# EAGLE library part ATMEGA2560-16AU (library ATMEGA2560)
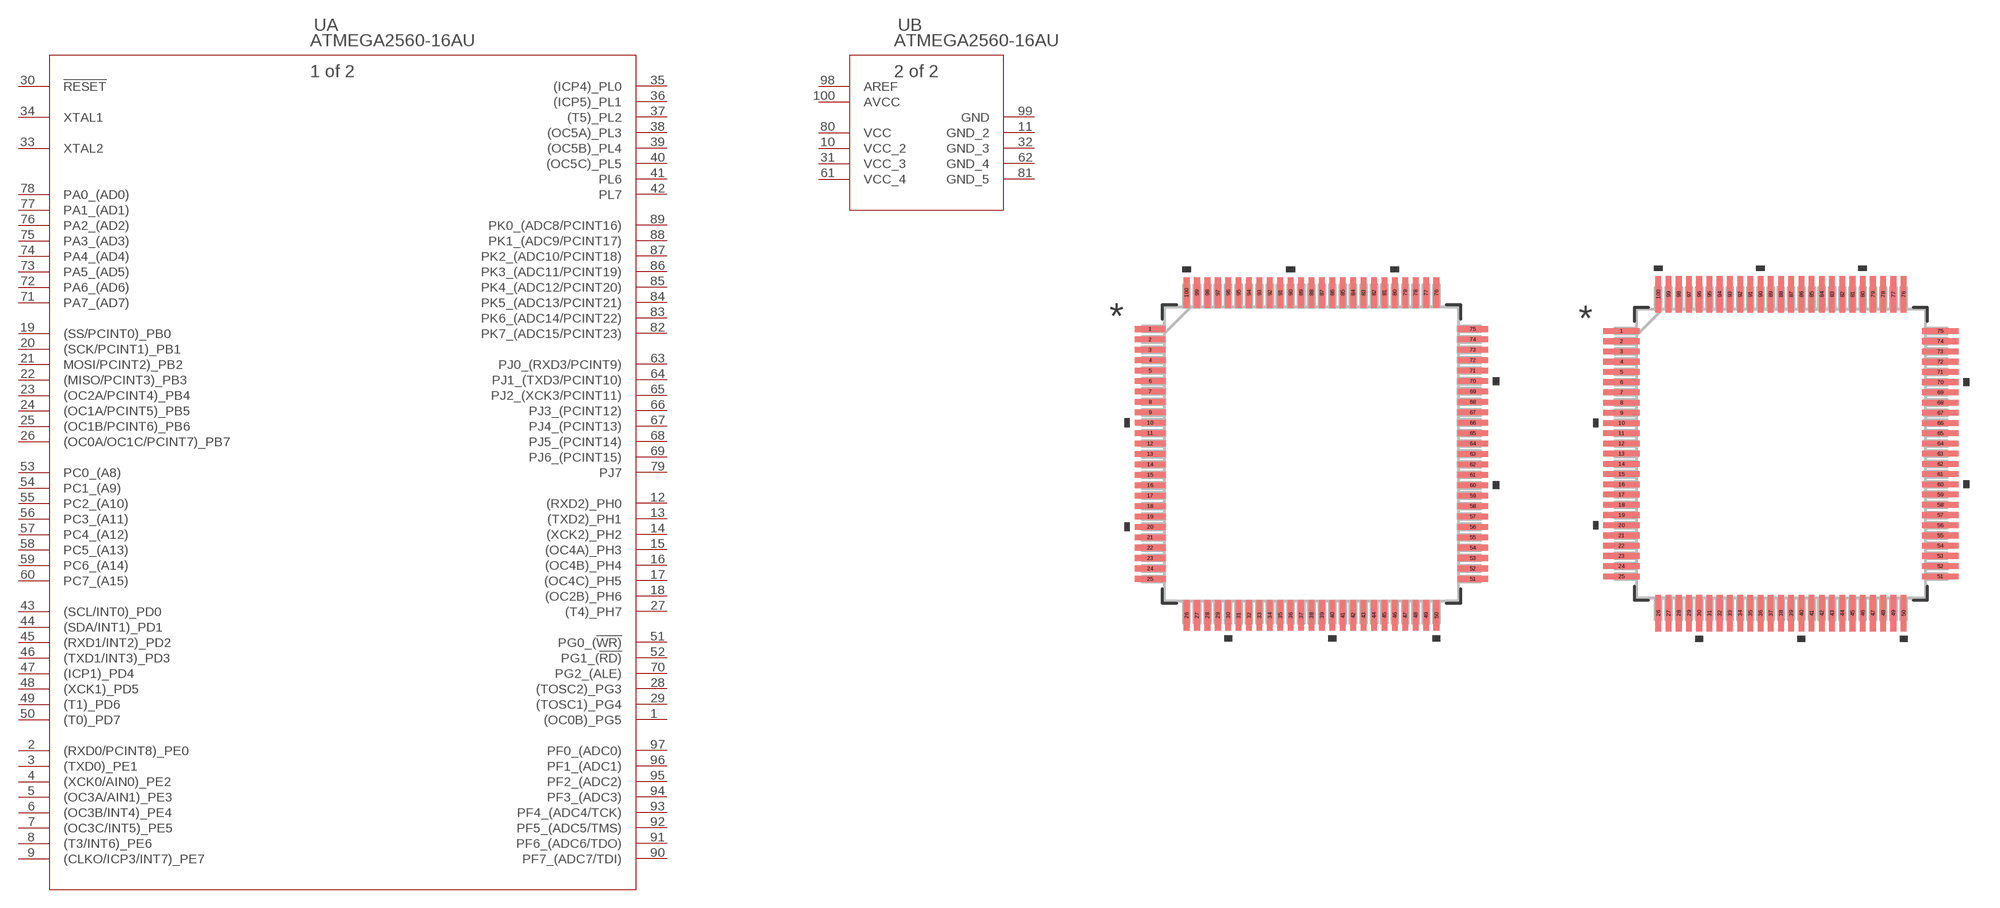
[diagram p0: symbol with the pads of 100A; footprints 100A, 100A-M]

Designator prefix U; gates A=ATMEGA2560-16AU B=ATMEGA2560-16AU_POWER

## ATMEGA2560-16AU (MANUFACTURER_PART_NUMBER: ATMEGA256016AU; VENDOR: Atmel)  [100A]
1  A:(OC0B)_PG5
2  A:(RXD0/PCINT8)_PE0
3  A:(TXD0)_PE1
4  A:(XCK0/AIN0)_PE2
5  A:(OC3A/AIN1)_PE3
6  A:(OC3B/INT4)_PE4
7  A:(OC3C/INT5)_PE5
8  A:(T3/INT6)_PE6
9  A:(CLKO/ICP3/INT7)_PE7
10  B:VCC_2  pwr
11  B:GND_2  pwr
12  A:(RXD2)_PH0
13  A:(TXD2)_PH1
14  A:(XCK2)_PH2
15  A:(OC4A)_PH3
16  A:(OC4B)_PH4
17  A:(OC4C)_PH5
18  A:(OC2B)_PH6
19  A:(SS/PCINT0)_PB0
20  A:(SCK/PCINT1)_PB1
21  A:MOSI/PCINT2)_PB2
22  A:(MISO/PCINT3)_PB3
23  A:(OC2A/PCINT4)_PB4
24  A:(OC1A/PCINT5)_PB5
25  A:(OC1B/PCINT6)_PB6
26  A:(OC0A/OC1C/PCINT7)_PB7
27  A:(T4)_PH7
28  A:(TOSC2)_PG3
29  A:(TOSC1)_PG4
30  A:!RESET  in
31  B:VCC_3  pwr
32  B:GND_3  pwr
33  A:XTAL2  out
34  A:XTAL1  in
35  A:(ICP4)_PL0
36  A:(ICP5)_PL1
37  A:(T5)_PL2
38  A:(OC5A)_PL3
39  A:(OC5B)_PL4
40  A:(OC5C)_PL5
41  A:PL6
42  A:PL7
43  A:(SCL/INT0)_PD0
44  A:(SDA/INT1)_PD1
45  A:(RXD1/INT2)_PD2
46  A:(TXD1/INT3)_PD3
47  A:(ICP1)_PD4
48  A:(XCK1)_PD5
49  A:(T1)_PD6
50  A:(T0)_PD7
51  A:PG0_(!WR)
52  A:PG1_(!RD)
53  A:PC0_(A8)
54  A:PC1_(A9)
55  A:PC2_(A10)
56  A:PC3_(A11)
57  A:PC4_(A12)
58  A:PC5_(A13)
59  A:PC6_(A14)
60  A:PC7_(A15)
61  B:VCC_4  pwr
62  B:GND_4  pwr
63  A:PJ0_(RXD3/PCINT9)
64  A:PJ1_(TXD3/PCINT10)
65  A:PJ2_(XCK3/PCINT11)
66  A:PJ3_(PCINT12)
67  A:PJ4_(PCINT13)
68  A:PJ5_(PCINT14)
69  A:PJ6_(PCINT15)
70  A:PG2_(ALE)
71  A:PA7_(AD7)
72  A:PA6_(AD6)
73  A:PA5_(AD5)
74  A:PA4_(AD4)
75  A:PA3_(AD3)
76  A:PA2_(AD2)
77  A:PA1_(AD1)
78  A:PA0_(AD0)
79  A:PJ7
80  B:VCC  pwr
81  B:GND_5  pwr
82  A:PK7_(ADC15/PCINT23)
83  A:PK6_(ADC14/PCINT22)
84  A:PK5_(ADC13/PCINT21)
85  A:PK4_(ADC12/PCINT20)
86  A:PK3_(ADC11/PCINT19)
87  A:PK2_(ADC10/PCINT18)
88  A:PK1_(ADC9/PCINT17)
89  A:PK0_(ADC8/PCINT16)
90  A:PF7_(ADC7/TDI)
91  A:PF6_(ADC6/TDO)
92  A:PF5_(ADC5/TMS)
93  A:PF4_(ADC4/TCK)
94  A:PF3_(ADC3)
95  A:PF2_(ADC2)
96  A:PF1_(ADC1)
97  A:PF0_(ADC0)
98  B:AREF  pwr
99  B:GND  pas
100  B:AVCC  pwr

## ATMEGA2560-16AU100A-M (MANUFACTURER_PART_NUMBER: ATMEGA256016AU; VENDOR: Atmel)  [100A-M]
Pads as for 100A

## ATMEGA2560-16AU100A-L (MANUFACTURER_PART_NUMBER: ATMEGA256016AU; VENDOR: Atmel)  [100A-L]
Pads as for 100A

## Footprint 100A (pad centres in mm)
smd 1.473 x 0.279: 1 -7.747,6; 2 -7.747,5.5; 3 -7.747,5; 4 -7.747,4.5; 5 -7.747,4; 6 -7.747,3.5; 7 -7.747,3; 8 -7.747,2.5; 9 -7.747,2; 10 -7.747,1.5; 11 -7.747,1; 12 -7.747,0.5; 13 -7.747,0; 14 -7.747,-0.5; 15 -7.747,-1; 16 -7.747,-1.5; 17 -7.747,-2; 18 -7.747,-2.5; 19 -7.747,-3; 20 -7.747,-3.5; 21 -7.747,-4; 22 -7.747,-4.5; 23 -7.747,-5; 24 -7.747,-5.5; 25 -7.747,-6; 51 7.747,-6; 52 7.747,-5.5; 53 7.747,-5; 54 7.747,-4.5; 55 7.747,-4; 56 7.747,-3.5; 57 7.747,-3; 58 7.747,-2.5; 59 7.747,-2; 60 7.747,-1.5; 61 7.747,-1; 62 7.747,-0.5; 63 7.747,0; 64 7.747,0.5; 65 7.747,1; 66 7.747,1.5; 67 7.747,2; 68 7.747,2.5; 69 7.747,3; 70 7.747,3.5; 71 7.747,4; 72 7.747,4.5; 73 7.747,5; 74 7.747,5.5; 75 7.747,6
smd 0.279 x 1.473: 26 -6,-7.747; 27 -5.5,-7.747; 28 -5,-7.747; 29 -4.5,-7.747; 30 -4,-7.747; 31 -3.5,-7.747; 32 -3,-7.747; 33 -2.5,-7.747; 34 -2,-7.747; 35 -1.5,-7.747; 36 -1,-7.747; 37 -0.5,-7.747; 38 0,-7.747; 39 0.5,-7.747; 40 1,-7.747; 41 1.5,-7.747; 42 2,-7.747; 43 2.5,-7.747; 44 3,-7.747; 45 3.5,-7.747; 46 4,-7.747; 47 4.5,-7.747; 48 5,-7.747; 49 5.5,-7.747; 50 6,-7.747; 76 6,7.747; 77 5.5,7.747; 78 5,7.747; 79 4.5,7.747; 80 4,7.747; 81 3.5,7.747; 82 3,7.747; 83 2.5,7.747; 84 2,7.747; 85 1.5,7.747; 86 1,7.747; 87 0.5,7.747; 88 0,7.747; 89 -0.5,7.747; 90 -1,7.747; 91 -1.5,7.747; 92 -2,7.747; 93 -2.5,7.747; 94 -3,7.747; 95 -3.5,7.747; 96 -4,7.747; 97 -4.5,7.747; 98 -5,7.747; 99 -5.5,7.747; 100 -6,7.747

## Footprint 100A-M (pad centres in mm)
smd 1.778 x 0.279: 1 -7.798,6; 2 -7.798,5.5; 3 -7.798,5; 4 -7.798,4.5; 5 -7.798,4; 6 -7.798,3.5; 7 -7.798,3; 8 -7.798,2.5; 9 -7.798,2; 10 -7.798,1.5; 11 -7.798,1; 12 -7.798,0.5; 13 -7.798,0; 14 -7.798,-0.5; 15 -7.798,-1; 16 -7.798,-1.5; 17 -7.798,-2; 18 -7.798,-2.5; 19 -7.798,-3; 20 -7.798,-3.5; 21 -7.798,-4; 22 -7.798,-4.5; 23 -7.798,-5; 24 -7.798,-5.5; 25 -7.798,-6; 51 7.798,-6; 52 7.798,-5.5; 53 7.798,-5; 54 7.798,-4.5; 55 7.798,-4; 56 7.798,-3.5; 57 7.798,-3; 58 7.798,-2.5; 59 7.798,-2; 60 7.798,-1.5; 61 7.798,-1; 62 7.798,-0.5; 63 7.798,0; 64 7.798,0.5; 65 7.798,1; 66 7.798,1.5; 67 7.798,2; 68 7.798,2.5; 69 7.798,3; 70 7.798,3.5; 71 7.798,4; 72 7.798,4.5; 73 7.798,5; 74 7.798,5.5; 75 7.798,6
smd 0.279 x 1.778: 26 -6,-7.798; 27 -5.5,-7.798; 28 -5,-7.798; 29 -4.5,-7.798; 30 -4,-7.798; 31 -3.5,-7.798; 32 -3,-7.798; 33 -2.5,-7.798; 34 -2,-7.798; 35 -1.5,-7.798; 36 -1,-7.798; 37 -0.5,-7.798; 38 0,-7.798; 39 0.5,-7.798; 40 1,-7.798; 41 1.5,-7.798; 42 2,-7.798; 43 2.5,-7.798; 44 3,-7.798; 45 3.5,-7.798; 46 4,-7.798; 47 4.5,-7.798; 48 5,-7.798; 49 5.5,-7.798; 50 6,-7.798; 76 6,7.798; 77 5.5,7.798; 78 5,7.798; 79 4.5,7.798; 80 4,7.798; 81 3.5,7.798; 82 3,7.798; 83 2.5,7.798; 84 2,7.798; 85 1.5,7.798; 86 1,7.798; 87 0.5,7.798; 88 0,7.798; 89 -0.5,7.798; 90 -1,7.798; 91 -1.5,7.798; 92 -2,7.798; 93 -2.5,7.798; 94 -3,7.798; 95 -3.5,7.798; 96 -4,7.798; 97 -4.5,7.798; 98 -5,7.798; 99 -5.5,7.798; 100 -6,7.798

## Footprint 100A-L (pad centres in mm)
smd 1.168 x 0.279: 1 -7.696,6; 2 -7.696,5.5; 3 -7.696,5; 4 -7.696,4.5; 5 -7.696,4; 6 -7.696,3.5; 7 -7.696,3; 8 -7.696,2.5; 9 -7.696,2; 10 -7.696,1.5; 11 -7.696,1; 12 -7.696,0.5; 13 -7.696,0; 14 -7.696,-0.5; 15 -7.696,-1; 16 -7.696,-1.5; 17 -7.696,-2; 18 -7.696,-2.5; 19 -7.696,-3; 20 -7.696,-3.5; 21 -7.696,-4; 22 -7.696,-4.5; 23 -7.696,-5; 24 -7.696,-5.5; 25 -7.696,-6; 51 7.696,-6; 52 7.696,-5.5; 53 7.696,-5; 54 7.696,-4.5; 55 7.696,-4; 56 7.696,-3.5; 57 7.696,-3; 58 7.696,-2.5; 59 7.696,-2; 60 7.696,-1.5; 61 7.696,-1; 62 7.696,-0.5; 63 7.696,0; 64 7.696,0.5; 65 7.696,1; 66 7.696,1.5; 67 7.696,2; 68 7.696,2.5; 69 7.696,3; 70 7.696,3.5; 71 7.696,4; 72 7.696,4.5; 73 7.696,5; 74 7.696,5.5; 75 7.696,6
smd 0.279 x 1.168: 26 -6,-7.696; 27 -5.5,-7.696; 28 -5,-7.696; 29 -4.5,-7.696; 30 -4,-7.696; 31 -3.5,-7.696; 32 -3,-7.696; 33 -2.5,-7.696; 34 -2,-7.696; 35 -1.5,-7.696; 36 -1,-7.696; 37 -0.5,-7.696; 38 0,-7.696; 39 0.5,-7.696; 40 1,-7.696; 41 1.5,-7.696; 42 2,-7.696; 43 2.5,-7.696; 44 3,-7.696; 45 3.5,-7.696; 46 4,-7.696; 47 4.5,-7.696; 48 5,-7.696; 49 5.5,-7.696; 50 6,-7.696; 76 6,7.696; 77 5.5,7.696; 78 5,7.696; 79 4.5,7.696; 80 4,7.696; 81 3.5,7.696; 82 3,7.696; 83 2.5,7.696; 84 2,7.696; 85 1.5,7.696; 86 1,7.696; 87 0.5,7.696; 88 0,7.696; 89 -0.5,7.696; 90 -1,7.696; 91 -1.5,7.696; 92 -2,7.696; 93 -2.5,7.696; 94 -3,7.696; 95 -3.5,7.696; 96 -4,7.696; 97 -4.5,7.696; 98 -5,7.696; 99 -5.5,7.696; 100 -6,7.696